# Altium footprint library Resistors.PcbLib: 2 footprints
Each footprint in its own frame and in the unit in brackets; x right, y up, seen from the top. Pads: shape width x height; smd on the part's side, far side on the other; paste and mask are expansions set on the pad; w line width, h text height; cw(c..) or ccw(c..) is an arc to the next point about the centre after c.
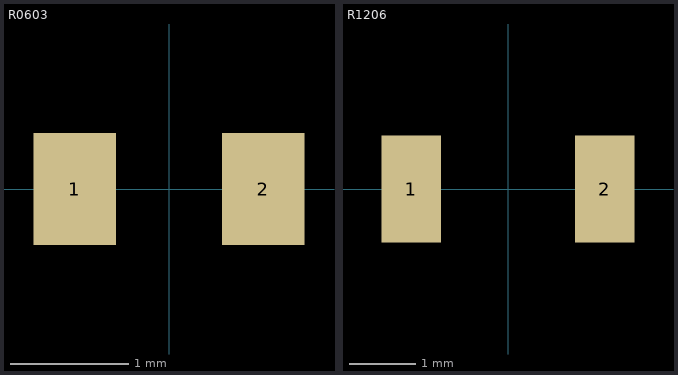
[diagram p0: the footprints below, top view; thin cyan lines are the x and y axes]

## R0603 [mm]
pads (2):
  rect 0.7x0.95 smd: 1(-0.8,0) 2(0.8,0)

## R1206 [mil]
pads (2):
  rect 35x63 smd: 1(-57,0) 2(57,0)